# Altium footprint library fuse_1206.PcbLib: 1 footprints
Each footprint in its own frame and in the unit in brackets; x right, y up, seen from the top. Pads: shape width x height; smd on the part's side, far side on the other; paste and mask are expansions set on the pad; w line width, h text height; cw(c..) or ccw(c..) is an arc to the next point about the centre after c.
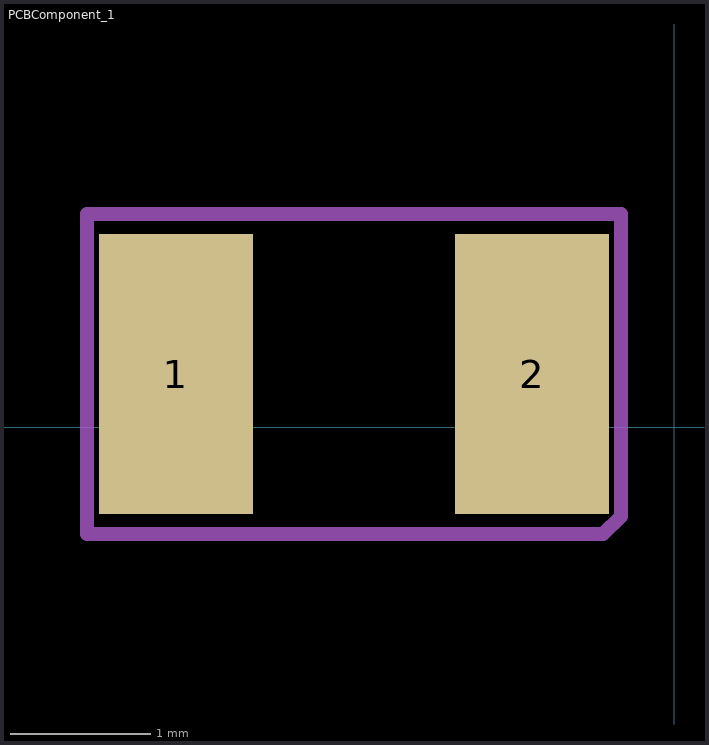
[diagram p0: the footprint, top view; thin cyan lines are the x and y axes]

## PCBComponent_1 [mm]
pads (2):
  rect 1.1x2 smd: 1(-3.556,0.381) 2(-1.016,0.381)
Mechanical 1:
  lines w0.1: -4.191,-0.762 -4.191,1.524 -0.381,1.524 -0.381,-0.635 -0.508,-0.762 -4.191,-0.762